# Altium schematic symbol library CMC 10mH.SchLib: 1 symbol
Pins are listed as number, name and electrical type; pins without a type are passive.

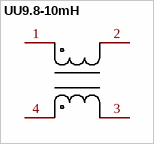
[diagram p0: symbol UU9.8-10mH]

## UU9.8-10mH
designator L?  (value not drawn)
Manufacturer: FH(风华); Add into BOM: yes; Number of Lines: 2; Withstanding Voltage: 1kV; Inductance @ Frequency: 10mH@1kHz; DC Resistance (DCR): 800mΩ; Symbol: UU9.8-10MH; Device: UU9.8-10mH; LCSC Part Name: 两路 插件共模滤波器; Supplier Part: C148474; Manufacturer Part: UU9.8-10mH; Supplier Footprint: 插件; JLCPCB Part Class: Extended Part; Datasheet: https://atta.szlcsc.com/upload/public/pdf/source/20210713/C148474_656501625637B4BA0D3972AB204D3908.pdf; Supplier: LCSC; Convert to PCB: yes; Current Rating: -; Voltage Rating - DC: -; Voltage Rating: -; Impedance @ Frequency: -; Operating Temperature: -
footprint FILTER-TH_4P-L17.0-W12.0-P7.00-D0.6-S8.00
pins: 1, 2, 3, 4